# Altium integrated library MCP23S17-E_SO.IntLib: 1 symbol
Pins are listed as number, name and electrical type; pins without a type are passive.

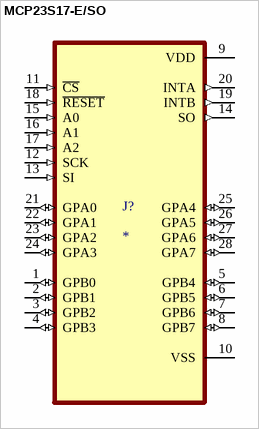
[diagram p0: symbol MCP23S17-E/SO]

## MCP23S17-E/SO
designator J?
Microchip MCP23S17-E/SO,16-channel 16bit I/O Exp&er 5MHz,Serial-SPI,28-Pin SOIC | Microchip Technology Inc. MCP23S17-E/SO; SnapEDA_Link: https://www.snapeda.com/parts/MCP23S17-E/SO/Microchip/view-part/?ref=snap; Package: SOIC-28 Microchip; Value: *; MF: Microchip; MP: MCP23S17-E/SO; Check_prices: https://www.snapeda.com/parts/MCP23S17-E/SO/Microchip/view-part/?ref=eda
footprint SOIC127P1030X265-28N
pins: 1 GPB0 (io), 2 GPB1 (io), 3 GPB2 (io), 4 GPB3 (io), 5 GPB4 (io), 6 GPB5 (io), 7 GPB6 (io), 8 GPB7 (io), 9 VDD (power), 10 VSS (power), 11 ~{CS} (in), 12 SCK (in), 13 SI (in), 14 SO (out), 15 A0 (in), 16 A1 (in), 17 A2 (in), 18 ~{RESET} (in), 19 INTB (out), 20 INTA (out), 21 GPA0 (io), 22 GPA1 (io), 23 GPA2 (io), 24 GPA3 (io), 25 GPA4 (io), 26 GPA5 (io), 27 GPA6 (io), 28 GPA7 (io)